# EAGLE library part MDSSV-BD09 (library con-yamaichi)
YAMAICHI CONNECTOR
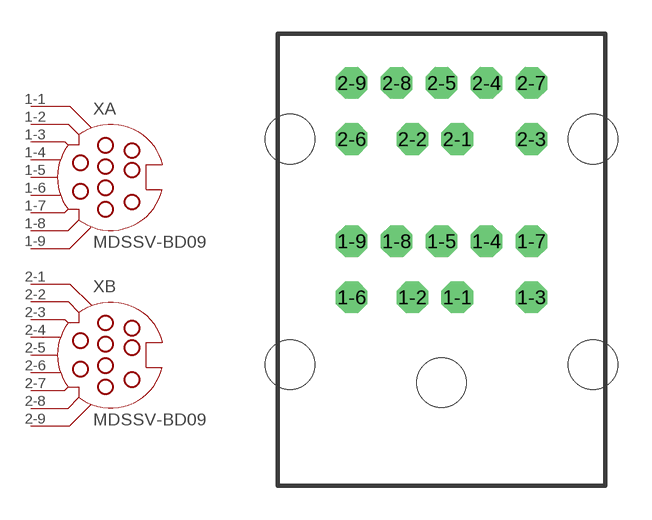
[diagram p27: symbol with the pads of SSV-BD09; footprint SSV-BD09]

Designator prefix X; gates A=SSV-BC09 B=SSV-BC09

## MDSSV-BD09 (OC_FARNELL: unknown; OC_NEWARK: unknown)  [SSV-BD09]
1-1  A:1  pas
1-2  A:2  pas
1-3  A:3  pas
1-4  A:4  pas
1-5  A:5  pas
1-6  A:6  pas
1-7  A:7  pas
1-8  A:8  pas
1-9  A:9  pas
2-1  B:1  pas
2-2  B:2  pas
2-3  B:3  pas
2-4  B:4  pas
2-5  B:5  pas
2-6  B:6  pas
2-7  B:7  pas
2-8  B:8  pas
2-9  B:9  pas

## Footprint SSV-BD09 (pad centres in mm)
Mini Din YAMAICHI CONNECTOR
drill 0.9 octagon: 1-1 0.7,8.5; 1-2 -1.3,8.5; 1-3 4,8.5; 1-4 2,11; 1-5 0,11; 1-6 -4,8.5; 1-7 4,11; 1-8 -2,11; 1-9 -4,11; 2-1 0.7,15.55; 2-2 -1.3,15.55; 2-3 4,15.55; 2-4 2,18.05; 2-5 0,18.05; 2-6 -4,15.55; 2-7 4,18.05; 2-8 -2,18.05; 2-9 -4,18.05
hole 2.2 at -6.75,5.5
hole 2.2 at 0,4.7
hole 2.2 at 6.75,5.5
hole 2.2 at -6.75,15.55
hole 2.2 at 6.75,15.55